# Altium integrated library ATK-MD0130_V2.0.IntLib: 6 symbols
Pins are listed as number, name and electrical type; pins without a type are passive.

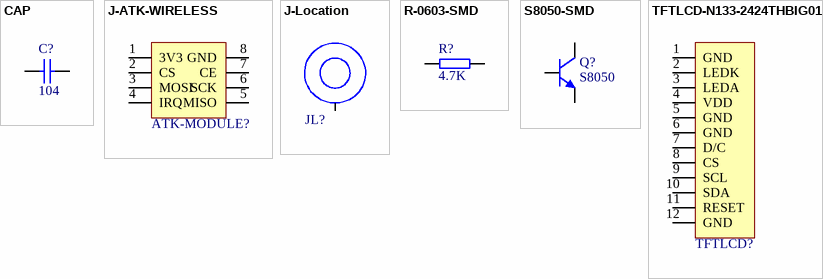
[diagram p0: symbols CAP to TFTLCD-N133-2424THBIG01]

## CAP
designator C?, comment 104
footprint CAP-SMD-0603
pins: 1, 2

## J-ATK-WIRELESS
designator ATK-MODULE?  (value not drawn)
ALIENTEK无线接口
footprint HEADER-2*4-2.54MM
pins: 1 3V3, 2 CS, 3 MOSI, 4 IRQ, 5 MISO, 6 SCK, 7 CE, 8 GND

## J-Location
designator JL?  (value not drawn)
定位孔
footprint J-Location
pins: 0 Loc

## R-0603-SMD
designator R?, comment 4.7K
贴片电阻
footprint RES-SMD-0603 (贴片电阻)
pins: 1, 2

## S8050-SMD
designator Q?, comment S8050
footprint SOT-23-3
pins: 1, 2, 3

## TFTLCD-N133-2424THBIG01
designator TFTLCD?  (value not drawn)
TFTLCD,240*240,SPI
footprint TFT-N133-2424THBIG01 (TFT LCD 240*240)
pins: 1 GND, 2 LEDK, 3 LEDA, 4 VDD, 5 GND, 6 GND, 7 D/C, 8 CS, 9 SCL, 10 SDA, 11 RESET, 12 GND